# Altium footprint library WRIS-PWMC.PcbLib: 2 footprints
Each footprint in its own frame and in the unit in brackets; x right, y up, seen from the top. Pads: shape width x height; smd on the part's side, far side on the other; paste and mask are expansions set on the pad; w line width, h text height; cw(c..) or ccw(c..) is an arc to the next point about the centre after c.
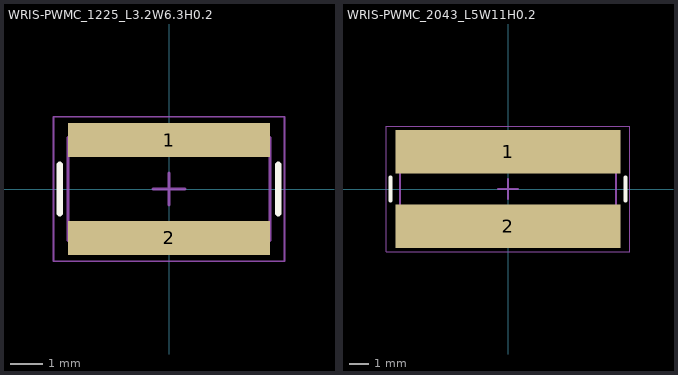
[diagram p0: the footprints below, top view; thin cyan lines are the x and y axes]

## WRIS-PWMC_1225_L3.2W6.3H0.2 [mm] "Metal Plate Resistors, SMT, body size 6.3x3.2mm"
height 0.2
pads (2):
  rect 6.3x1.05 smd: 1(0,1.525) 2(0,-1.525)
Top Overlay:
  lines w0.2: -3.4,-0.75 -3.4,0.75 ; 3.4,-0.75 3.4,0.75
Top Assembly:
  lines w0.1: -3.15,-1.6 -3.15,1.6 3.15,1.6 3.15,-1.6 -3.15,-1.6
Top Designator:
  text ".Designator" at -3.647,-0.357 h1
Top 3D Body:
  lines w0.1: -3.15,-1.6 -3.15,1.6 3.15,1.6 3.15,-1.6 -3.15,-1.6
Top Courtyard:
  lines w0.05: -3.6,-2.25 3.6,-2.25 3.6,2.25 -3.6,2.25 -3.6,-2.25
Top Component Center:
  lines w0.1: -0.5,0 0.5,0 ; 0,-0.5 0,0.5
3D body "WRIS-PWMC_1225.stp": height 0.2, standoff 0, extent -3.15,-1.6 3.15,1.6

## WRIS-PWMC_2043_L5W11H0.2 [mm] "Metal Plate Resistors, SMT, body size 11x5mm"
height 0.2
pads (2):
  rect 11.5x2.2 smd: 1(0,1.9) 2(0,-1.9)
Top Overlay:
  lines w0.2: -6,-0.6 -6,0.6 ; 6,-0.6 6,0.6
Top Assembly:
  lines w0.1: -5.5,-2.5 5.5,-2.5 5.5,2.5 -5.5,2.5 -5.5,-2.5
Top Designator:
  text ".Designator" at -3.647,-0.357 h1
Top 3D Body:
  lines w0.1: -5.5,-2.5 5.5,-2.5 5.5,2.5 -5.5,2.5 -5.5,-2.5
Top Courtyard:
  lines w0.05: -6.2,-3.2 6.2,-3.2 6.2,3.2 -6.2,3.2 -6.2,-3.2
Top Component Center:
  lines w0.1: -0.5,0 0.5,0 ; 0,-0.5 0,0.5
3D body "WRIS-PWMC_2043.stp": height 0.2, standoff 0, extent -5.5,-2.5 5.5,2.5